# Altium footprint library Varistor.PcbLib: 1 footprints
Each footprint in its own frame and in the unit in brackets; x right, y up, seen from the top. Pads: shape width x height; smd on the part's side, far side on the other; paste and mask are expansions set on the pad; w line width, h text height; cw(c..) or ccw(c..) is an arc to the next point about the centre after c.
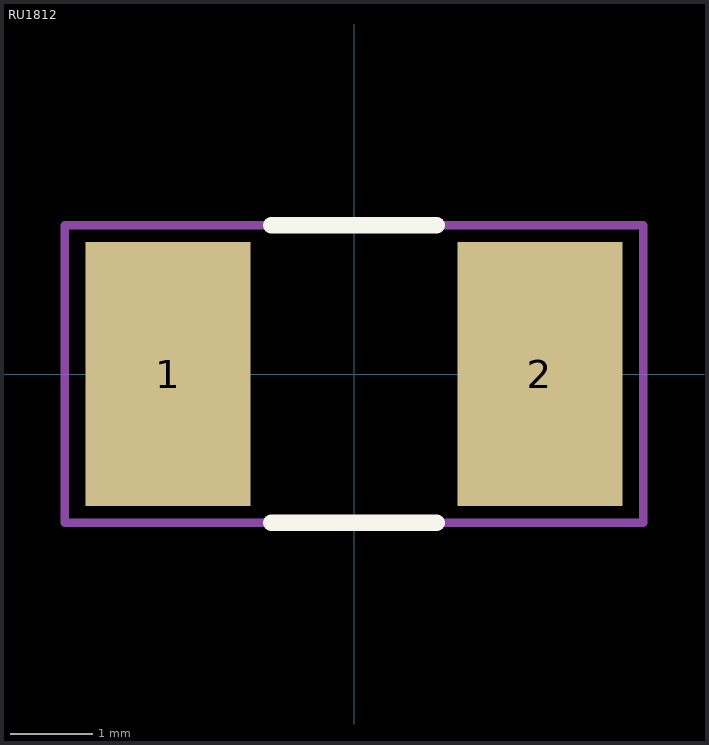
[diagram p0: the footprint, top view; thin cyan lines are the x and y axes]

## RU1812 [mm]
pads (2):
  rect 2x3.2 smd: 1(-2.25,0) 2(2.25,0)
Top Overlay:
  lines w0.2: -1,-1.8 1,-1.8 ; -1,1.8 1,1.8
Border:
  lines w0.1: -3.5,-1.8 3.5,-1.8 3.5,1.8 -3.5,1.8 -3.5,-1.8
3D body "User Library-V1812HD.STEP": height 2, standoff 0, extent -2.25,-1.6 2.25,1.6